# Altium footprint library BTL_PCBLIB.PcbLib: 19 footprints (part 2 of 2)
Each footprint in its own frame and in the unit in brackets; x right, y up, seen from the top. Pads: shape width x height; smd on the part's side, far side on the other; paste and mask are expansions set on the pad; w line width, h text height; cw(c..) or ccw(c..) is an arc to the next point about the centre after c.
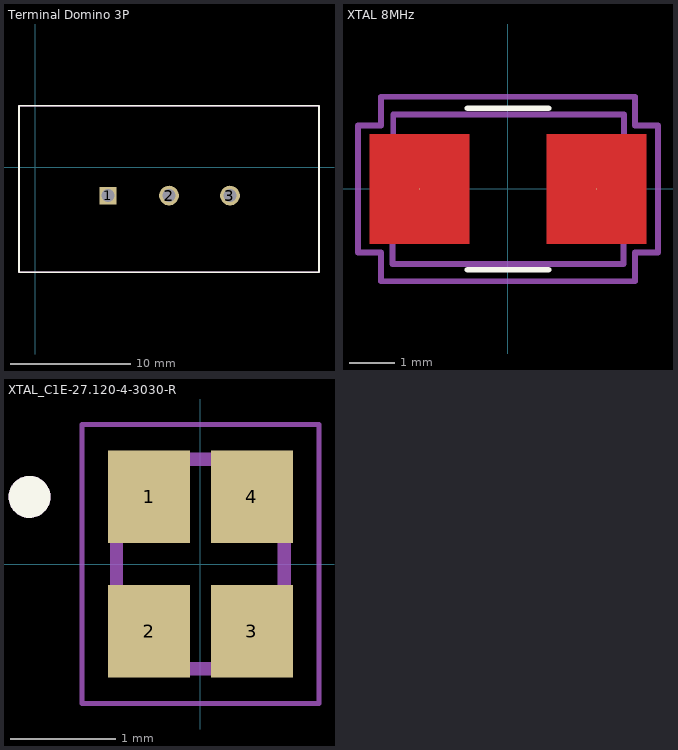
[diagram p1: the footprints below, top view; thin cyan lines are the x and y axes]

## Terminal Domino 3P [mm]
pads (3):
  rect 1.45x1.45 / inner round 1.45 / far side rect 1.45x1.45 hole 1.1: 1(6.074,-2.381)
  round 1.65 hole 1.1: 2(11.154,-2.381) 3(16.234,-2.381)
Top Overlay:
  lines w0.127: -1.346,-8.781 23.654,-8.781 23.654,5.119 -1.346,5.119 -1.346,-8.781
Mechanical 13:
  lines w0.127: -1.346,-8.781 23.654,-8.781 23.654,5.119 -1.346,5.119 -1.346,-8.781

## XTAL 8MHz [mil]
pads (2):
  round 1 smd: 1(-76.69,0) 2(76.69,0)
Top Layer:
  region: 33.39,47.24 120,47.24 120,-47.24 33.39,-47.24
  region: -120,47.24 -120,-47.24 -33.39,-47.24 -33.39,47.24
Top Overlay:
  lines w5: -35,-70 35,-70 ; -35,70 35,70
Mechanical 13:
  lines w5: -100,-65 100,-65 100.59,64.49 -99.41,64.49 -100,-65
Mechanical 15:
  lines w5: -130,-55 -130,55 -110,55 -110,80 110,80 110,55 130,55 130,-55 110,-55 110,-80 -110,-80 -110,-55 -130,-55
3D body "NX5032GA-8MHZ-EXS00A-CG07039.STEP": height 59.06, standoff 0, extent -98.43,-62.99 98.43,62.99

## XTAL_C1E-27.120-4-3030-R [mm]
height 0.5
pads (4):
  rect 0.78x0.88 smd: 1(-0.49,0.64) 2(-0.49,-0.64) 3(0.49,-0.64) 4(0.49,0.64)
Top Overlay:
  circle w0.2: c-1.63,0.64 r0.1
Mechanical 13:
  circle w0.2: c-1.63,0.64 r0.1
  lines w0.127: -0.8,-1 -0.8,1 0.8,1 0.8,-1 -0.8,-1
Mechanical 15:
  lines w0.05: -1.13,-1.33 -1.13,1.33 1.13,1.33 1.13,-1.33 -1.13,-1.33
3D body "step_temp.STEP": height 0.5, standoff 0, extent -0.8,-1 0.8,1